# EAGLE library part IS61WV102416F*? (library memory-issi)
1Mx16 HIGH-SPEED ASYNCHRONOUS CMOS STATIC RAM WITH 3.3V/1.8V SUPPLY
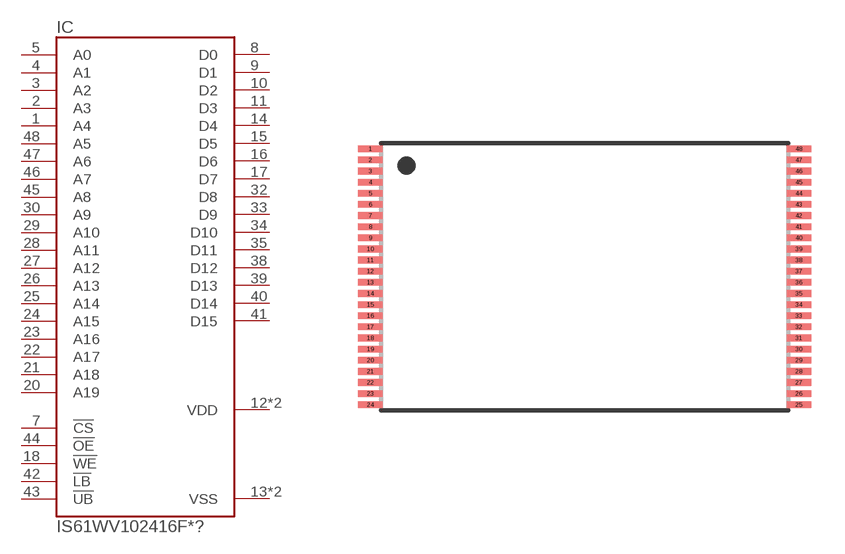
[diagram p0: symbol with the pads of TSOP48; footprint TSOP48]

Designator prefix IC

## IS61WV102416FALL-10TLI (DELAY: 10ns; VS: 1.65V to 2.2V), IS61WV102416FALL-20TLI (DELAY: 20ns; VS: 1.65V to 2.2V), IS61WV102416FALL-8TLI (DELAY: 8ns; VS: 1.65V to 2.2V), IS61WV102416FBLL-10TLI (DELAY: 10ns; VS: 2.4V to 3.6V), IS61WV102416FBLL-20TLI (DELAY: 20ns; VS: 2.4V to 3.6V), IS61WV102416FBLL-8TLI (DELAY: 8ns; VS: 2.4V to 3.6V)  [TSOP48]
1  A4
2  A3
3  A2
4  A1
5  A0
7  !CS!
8  D0
9  D1
10  D2
11  D3
12  VDD
13  VSS
14  D4
15  D5
16  D6
17  D7
18  !WE!
20  A19
21  A18
22  A17
23  A16
24  A15
25  A14
26  A13
27  A12
28  A11
29  A10
30  A9
32  D8
33  D9
34  D10
35  D11
36  VDD
37  VSS
38  D12
39  D13
40  D14
41  D15
42  !LB!
43  !UB!
44  !OE!
45  A8
46  A7
47  A6
48  A5

## Footprint TSOP48 (pad centres in mm)
48-Lead Thin Small Outline Package (TSOP) 12mm x 20mm SST Package Code: EK Source: http://www.sst.com/dotAsset/40687.pdf
smd 1.1 x 0.3: 1 -9.625,5.75; 2 -9.625,5.25; 3 -9.625,4.75; 4 -9.625,4.25; 5 -9.625,3.75; 6 -9.625,3.25; 7 -9.625,2.75; 8 -9.625,2.25; 9 -9.625,1.75; 10 -9.625,1.25; 11 -9.625,0.75; 12 -9.625,0.25; 13 -9.625,-0.25; 14 -9.625,-0.75; 15 -9.625,-1.25; 16 -9.625,-1.75; 17 -9.625,-2.25; 18 -9.625,-2.75; 19 -9.625,-3.25; 20 -9.625,-3.75; 21 -9.625,-4.25; 22 -9.625,-4.75; 23 -9.625,-5.25; 24 -9.625,-5.75; 25 9.625,-5.75; 26 9.625,-5.25; 27 9.625,-4.75; 28 9.625,-4.25; 29 9.625,-3.75; 30 9.625,-3.25; 31 9.625,-2.75; 32 9.625,-2.25; 33 9.625,-1.75; 34 9.625,-1.25; 35 9.625,-0.75; 36 9.625,-0.25; 37 9.625,0.25; 38 9.625,0.75; 39 9.625,1.25; 40 9.625,1.75; 41 9.625,2.25; 42 9.625,2.75; 43 9.625,3.25; 44 9.625,3.75; 45 9.625,4.25; 46 9.625,4.75; 47 9.625,5.25; 48 9.625,5.75